# Altium footprint library 0603FT.PcbLib: 1 footprints
Each footprint in its own frame and in the unit in brackets; x right, y up, seen from the top. Pads: shape width x height; smd on the part's side, far side on the other; paste and mask are expansions set on the pad; w line width, h text height; cw(c..) or ccw(c..) is an arc to the next point about the centre after c.
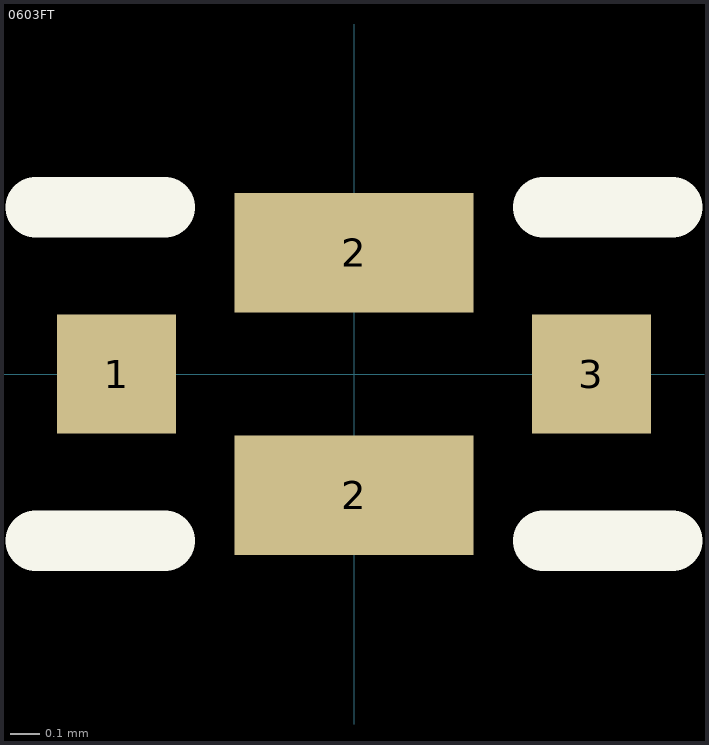
[diagram p0: the footprint, top view; thin cyan lines are the x and y axes]

## 0603FT [mm]
height 0.95
pads (4):
  rect 0.4x0.4 smd: 1(-0.796,0) 3(0.796,0)
  rect 0.8x0.4 smd: 2(0,-0.406) 2(0,0.406)
TopOverlay:
  lines w0.203: -1.067,-0.559 -0.635,-0.559 ; -1.067,0.559 -0.635,0.559 ; 0.635,-0.559 1.067,-0.559 ; 0.635,0.559 1.067,0.559
3D body: height 0.6, standoff 0, extent -0.8,-0.409 0.8,0.409